# Altium footprint library 0603C.PcbLib: 1 footprints
Each footprint in its own frame and in the unit in brackets; x right, y up, seen from the top. Pads: shape width x height; smd on the part's side, far side on the other; paste and mask are expansions set on the pad; w line width, h text height; cw(c..) or ccw(c..) is an arc to the next point about the centre after c.
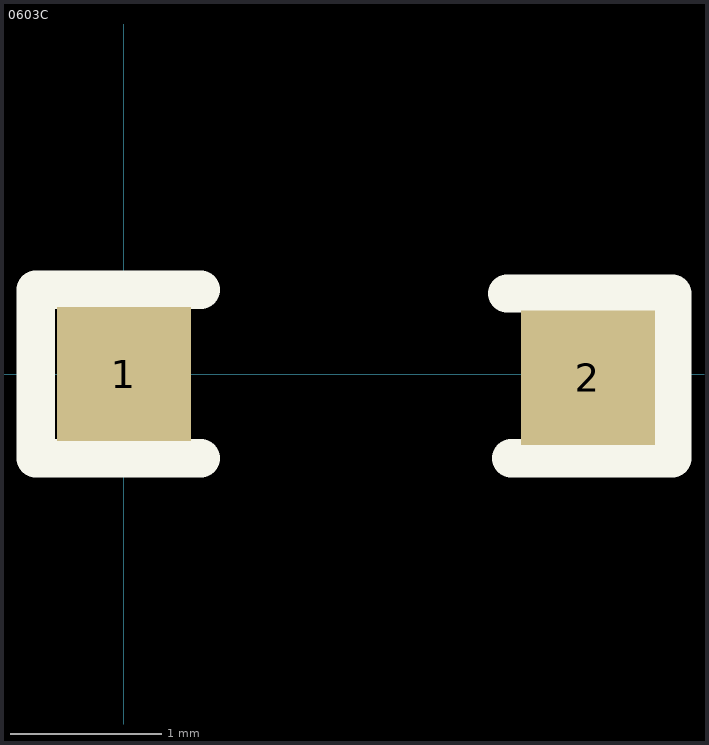
[diagram p0: the footprint, top view; thin cyan lines are the x and y axes]

## 0603C [mil]
pads (2):
  rect 35x35 smd: 1(0,0) 2(121,-1)
Top Overlay:
  lines w10: 20,-22 -23,-22 -23,22 20,22 ; 100,21 142,21 ; 101,-22 143,-22 142,-21 ; 143,-21 143,21